# Altium footprint library XT60PW.PcbLib: 2 footprints
Each footprint in its own frame and in the unit in brackets; x right, y up, seen from the top. Pads: shape width x height; smd on the part's side, far side on the other; paste and mask are expansions set on the pad; w line width, h text height; cw(c..) or ccw(c..) is an arc to the next point about the centre after c.
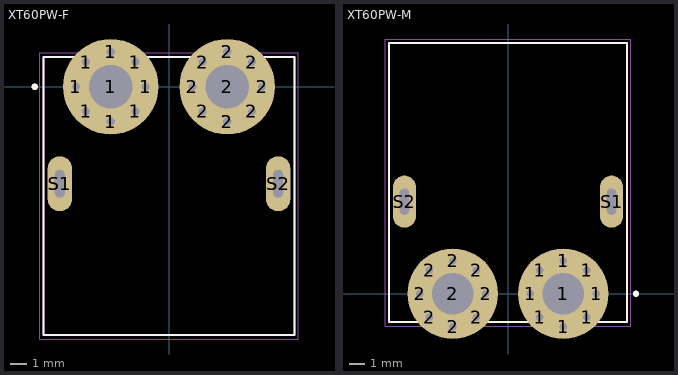
[diagram p0: the footprints below, top view; thin cyan lines are the x and y axes]

## XT60PW-F [mm]
pads (20):
  round 1.524 hole 0.5 unplated: 1(-5.759,0) 1(-5.127,-1.527) 1(-5.127,1.527) 1(-3.6,-2.159) 1(-3.6,2.159) 1(-2.073,-1.527) 1(-2.073,1.527) 1(-1.441,0) 2(1.441,0) 2(2.073,-1.527) 2(2.073,1.527) 2(3.6,-2.159) 2(3.6,2.159) 2(5.127,-1.527) 2(5.127,1.527) 2(5.759,0)
  round 5.9 hole 2.7 unplated: 1(-3.6,0) 2(3.6,0)
  oval 1.5x3.4 hole 0.6 slot 1.7 at 90 deg unplated: S1(-6.75,-6) S2(6.75,-6)
Top Overlay:
  circle w0.2: c-8.3,0 r0.1
  lines w0.127: -5.71,1.85 -7.75,1.85 -7.75,-15.35 7.75,-15.35 7.75,1.85 5.71,1.85 ; -1.49,1.85 1.49,1.85
Mechanical 13:
  circle w0.2: c-8.3,0 r0.1
  lines w0.127: -7.75,-15.35 -7.75,1.85 7.75,1.85 7.75,-15.35 -7.75,-15.35
Mechanical 15:
  lines w0.05: -8,-15.6 -8,2.1 8,2.1 8,-15.6 -8,-15.6
3D body "XT60PW-F--3DModel-STEP-56544.STEP": height 4.2, standoff -6.75, extent -7.75,-15.295 7.75,1.905

## XT60PW-M [mm]
pads (20):
  round 1.524 hole 0.5 unplated: 1(1.441,0) 1(2.073,-1.527) 1(2.073,1.527) 1(3.6,-2.159) 1(3.6,2.159) 1(5.127,-1.527) 1(5.127,1.527) 1(5.759,0) 2(-5.759,0) 2(-5.127,-1.527) 2(-5.127,1.527) 2(-3.6,-2.159) 2(-3.6,2.159) 2(-2.073,-1.527) 2(-2.073,1.527) 2(-1.441,0)
  round 5.9 hole 2.7 unplated: 1(3.6,0) 2(-3.6,0)
  oval 1.5x3.4 hole 0.6 slot 1.7 at 90 deg unplated: S1(6.75,6) S2(-6.75,6)
Top Overlay:
  circle w0.2: c8.337,0 r0.1
  lines w0.127: -5.778,-1.85 -7.75,-1.85 -7.75,16.35 7.75,16.35 7.75,-1.85 5.778,-1.85 ; -1.422,-1.85 1.422,-1.85
Mechanical 13:
  circle w0.2: c8.337,0 r0.1
  lines w0.127: -7.75,-1.85 7.75,-1.85 7.75,16.35 -7.75,16.35 -7.75,-1.85
Mechanical 15:
  lines w0.05: -8,-2.11 8,-2.11 8,16.6 -8,16.6 -8,-2.11
3D body "step_temp.STEP": height 4.2, standoff -6.75, extent -7.75,-1.874 7.75,16.326